# Altium schematic symbol library texas.SCHLIB: 197 symbols (part 3 of 3)
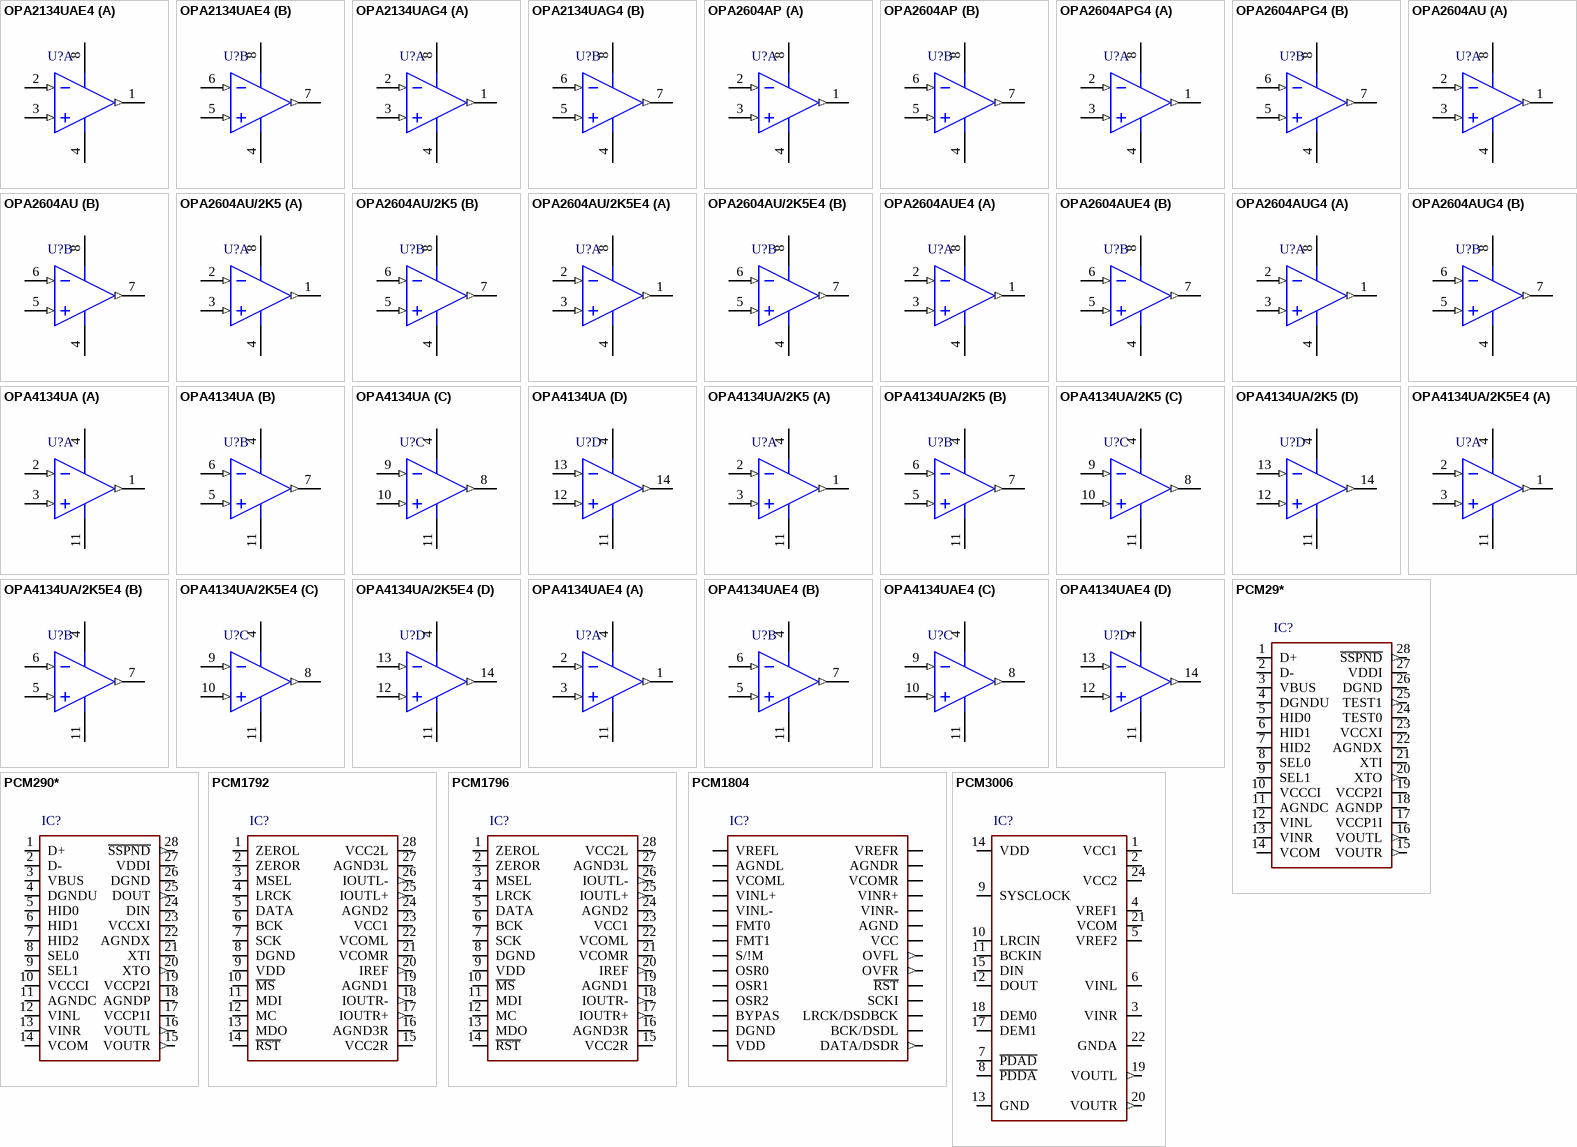
[diagram p15: symbols OPA2134UAE4 to PCM3006]

## OPA2604AUE4
designator U?
Dual FET-Input, Low Distortion Operational Amplifier, 9 to 48 V, -40 to 85 degC, 8-pin SOIC (D8), Green (RoHS & no Sb/Br); Vendor: TEXAS INSTRUMENTS
footprint TI-D8_N (SOIC, 8-Leads, Body 4.9x3.9mm, Pitch 1.27mm, IPC Medium Density)
footprint TI-D8_L (SOIC, 8-Leads, Body 4.9x3.9mm, Pitch 1.27mm, IPC High Density)
footprint TI-D8_M (SOIC, 8-Leads, Body 4.9x3.9mm, Pitch 1.27mm, IPC Low Density)
pins on every part: 4 V- (power), 8 V+ (power)
part A pins: 1 OUT A (out), 2 IN A- (in), 3 IN A+ (in)
part B pins: 5 IN B+ (in), 6 IN B- (in), 7 OUT B (out)

## OPA2604AUG4
designator U?
Dual FET-Input, Low Distortion Operational Amplifier, 9 to 48 V, -40 to 85 degC, 8-pin SOIC (D8), Green (RoHS & no Sb/Br); Vendor: TEXAS INSTRUMENTS
footprint TI-D8_N (SOIC, 8-Leads, Body 4.9x3.9mm, Pitch 1.27mm, IPC Medium Density)
footprint TI-D8_L (SOIC, 8-Leads, Body 4.9x3.9mm, Pitch 1.27mm, IPC High Density)
footprint TI-D8_M (SOIC, 8-Leads, Body 4.9x3.9mm, Pitch 1.27mm, IPC Low Density)
pins on every part: 4 V- (power), 8 V+ (power)
part A pins: 1 OUT A (out), 2 IN A- (in), 3 IN A+ (in)
part B pins: 5 IN B+ (in), 6 IN B- (in), 7 OUT B (out)

## OPA4134UA
designator U?
SoundPlus(TM) High Performance Audio Operational Amplifier, 5 to 36 V, -55 to 125 degC, 14-pin SOIC (D14), Green (RoHS & no Sb/Br); Vendor: TEXAS INSTRUMENTS
footprint TI-D14_N (SOIC, 14-Leads, Body 8.65x3.9mm, Pitch 1.27mm, IPC Medium Density)
footprint TI-D14_L (SOIC, 14-Leads, Body 8.65x3.9mm, Pitch 1.27mm, IPC High Density)
footprint TI-D14_M (SOIC, 14-Leads, Body 8.65x3.9mm, Pitch 1.27mm, IPC Low Density)
pins on every part: 4 V+ (power), 11 V- (power)
part A pins: 1 OUT A (out), 2 IN A- (in), 3 IN A+ (in)
part B pins: 5 IN B+ (in), 6 IN B- (in), 7 OUT B (out)
part C pins: 8 OUT C (out), 9 IN C- (in), 10 IN C+ (in)
part D pins: 12 IN D+ (in), 13 IN D- (in), 14 OUT D (out)

## OPA4134UA/2K5
designator U?
SoundPlus(TM) High Performance Audio Operational Amplifier, 5 to 36 V, -55 to 125 degC, 14-pin SOIC (D14), Green (RoHS & no Sb/Br); Vendor: TEXAS INSTRUMENTS
footprint TI-D14_N (SOIC, 14-Leads, Body 8.65x3.9mm, Pitch 1.27mm, IPC Medium Density)
footprint TI-D14_L (SOIC, 14-Leads, Body 8.65x3.9mm, Pitch 1.27mm, IPC High Density)
footprint TI-D14_M (SOIC, 14-Leads, Body 8.65x3.9mm, Pitch 1.27mm, IPC Low Density)
pins on every part: 4 V+ (power), 11 V- (power)
part A pins: 1 OUT A (out), 2 IN A- (in), 3 IN A+ (in)
part B pins: 5 IN B+ (in), 6 IN B- (in), 7 OUT B (out)
part C pins: 8 OUT C (out), 9 IN C- (in), 10 IN C+ (in)
part D pins: 12 IN D+ (in), 13 IN D- (in), 14 OUT D (out)

## OPA4134UA/2K5E4
designator U?
SoundPlus(TM) High Performance Audio Operational Amplifier, 5 to 36 V, -55 to 125 degC, 14-pin SOIC (D14), Green (RoHS & no Sb/Br); Vendor: TEXAS INSTRUMENTS
footprint TI-D14_N (SOIC, 14-Leads, Body 8.65x3.9mm, Pitch 1.27mm, IPC Medium Density)
footprint TI-D14_L (SOIC, 14-Leads, Body 8.65x3.9mm, Pitch 1.27mm, IPC High Density)
footprint TI-D14_M (SOIC, 14-Leads, Body 8.65x3.9mm, Pitch 1.27mm, IPC Low Density)
pins on every part: 4 V+ (power), 11 V- (power)
part A pins: 1 OUT A (out), 2 IN A- (in), 3 IN A+ (in)
part B pins: 5 IN B+ (in), 6 IN B- (in), 7 OUT B (out)
part C pins: 8 OUT C (out), 9 IN C- (in), 10 IN C+ (in)
part D pins: 12 IN D+ (in), 13 IN D- (in), 14 OUT D (out)

## OPA4134UAE4
designator U?
SoundPlus(TM) High Performance Audio Operational Amplifier, 5 to 36 V, -55 to 125 degC, 14-pin SOIC (D14), Green (RoHS & no Sb/Br); Vendor: TEXAS INSTRUMENTS
footprint TI-D14_N (SOIC, 14-Leads, Body 8.65x3.9mm, Pitch 1.27mm, IPC Medium Density)
footprint TI-D14_L (SOIC, 14-Leads, Body 8.65x3.9mm, Pitch 1.27mm, IPC High Density)
footprint TI-D14_M (SOIC, 14-Leads, Body 8.65x3.9mm, Pitch 1.27mm, IPC Low Density)
pins on every part: 4 V+ (power), 11 V- (power)
part A pins: 1 OUT A (out), 2 IN A- (in), 3 IN A+ (in)
part B pins: 5 IN B+ (in), 6 IN B- (in), 7 OUT B (out)
part C pins: 8 OUT C (out), 9 IN C- (in), 10 IN C+ (in)
part D pins: 12 IN D+ (in), 13 IN D- (in), 14 OUT D (out)

## PCM29*
designator IC?, comment <b>STEREO AUDIO CODEC WITH USB INTERFACE</b><p> / SINGLE-ENDED ANALOG INPUT/OUTPUT AND S/PDIF  (value not drawn)
Part Number: PCM2904DB; Vendor: TEXAS INSTRUMENTS
footprint SSOP28DB
pins: 1 D+, 2 D-, 3 VBUS (power), 4 DGNDU (power), 5 HID0, 6 HID1, 7 HID2, 8 SEL0, 9 SEL1, 10 VCCCI (power), 11 AGNDC (power), 12 VINL, 13 VINR, 14 VCOM (power), 15 VOUTR (out), 16 VOUTL (out), 17 VCCP1I, 18 AGNDP (power), 19 VCCP2I (power), 20 XTO (out), 21 XTI, 22 AGNDX (power), 23 VCCXI (power), 24 TEST0, 25 TEST1 (out), 26 DGND (power), 27 VDDI (power), 28 ~{SSPND} (out)

## PCM290*
designator IC?, comment <b>STEREO AUDIO CODEC WITH USB INTERFACE</b><p> / SINGLE-ENDED ANALOG INPUT/OUTPUT AND S/PDIF  (value not drawn)
Part Number: PCM2906DB; Vendor: TEXAS INSTRUMENTS
footprint SSOP28DB
pins: 1 D+, 2 D-, 3 VBUS (power), 4 DGNDU (power), 5 HID0, 6 HID1, 7 HID2, 8 SEL0, 9 SEL1, 10 VCCCI (power), 11 AGNDC (power), 12 VINL, 13 VINR, 14 VCOM (power), 15 VOUTR (out), 16 VOUTL (out), 17 VCCP1I, 18 AGNDP (power), 19 VCCP2I (power), 20 XTO (out), 21 XTI, 22 AGNDX (power), 23 VCCXI (power), 24 DIN, 25 DOUT (out), 26 DGND (power), 27 VDDI (power), 28 ~{SSPND} (out)

## PCM1792
designator IC?, comment <b>24-BIT, 192-kHz SAMPLING, ADVANCED SEGMENT, AUDIO STEREO DIGITAL-TO-ANALOG CONVERTER</b><p> / Source: http://focus.ti.com/lit/ds/symlink/pcm1792.pdf  (value not drawn)
Part Number: PCM1792DB; Vendor: TEXAS INSTRUMENTS
footprint DB_R-PDSO-G28
pins: 1 ZEROL, 2 ZEROR, 3 MSEL, 4 LRCK, 5 DATA, 6 BCK, 7 SCK, 8 DGND, 9 VDD, 10 ~{MS}, 11 MDI, 12 MC, 13 MDO, 14 ~{RST}, 15 VCC2R, 16 AGND3R, 17 IOUTR+ (out), 18 IOUTR- (out), 19 AGND1, 20 IREF (out), 21 VCOMR, 22 VCOML, 23 VCC1, 24 AGND2, 25 IOUTL+ (out), 26 IOUTL- (out), 27 AGND3L, 28 VCC2L

## PCM1796
designator IC?, comment <b>24-BIT, 192-kHz SAMPLING, ADVANCED SEGMENT, AUDIO STEREO DIGITAL-TO-ANALOG CONVERTER</b><p> / Source: http://focus.ti.com/lit/ds/symlink/pcm1796.pdf  (value not drawn)
Part Number: PCM1796DB; Vendor: TEXAS INSTRUMENTS
footprint DB_R-PDSO-G28
pins: 1 ZEROL, 2 ZEROR, 3 MSEL, 4 LRCK, 5 DATA, 6 BCK, 7 SCK, 8 DGND, 9 VDD, 10 ~{MS}, 11 MDI, 12 MC, 13 MDO, 14 ~{RST}, 15 VCC2R, 16 AGND3R, 17 IOUTR+ (out), 18 IOUTR- (out), 19 AGND1, 20 IREF (out), 21 VCOMR, 22 VCOML, 23 VCC1, 24 AGND2, 25 IOUTL+ (out), 26 IOUTL- (out), 27 AGND3L, 28 VCC2L

## PCM1804
designator IC?, comment <b>FULL DIFFERENTIAL ANALOG INPUT 24-BIT, 192-kHz STEREO A/D CONVERTER</b><p> / Auto generated by <i>make-symbol-device-package-bsdl.ulp Rev. 29</i><br> / Source: http://focus.ti.com/lit/ds/symlink/pcm1804.pdf  (value not drawn)
Part Number: PCM1804DB; Vendor: TEXAS INSTRUMENTS
footprint DB_R-PDSO-G28
pins: 1 VREFL (power), 2 AGNDL (power), 3 VCOML (power), 4 VINL+, 5 VINL-, 6 FMT0, 7 FMT1, 8 S/!M, 9 OSR0, 10 OSR1, 11 OSR2, 12 BYPAS, 13 DGND (power), 14 VDD (power), 15 DATA/DSDR (out), 16 BCK/DSDL, 17 LRCK/DSDBCK, 18 SCKI, 19 ~{RST}, 20 OVFR (out), 21 OVFL (out), 22 VCC (power), 23 AGND (power), 24 VINR-, 25 VINR+, 26 VCOMR (power), 27 AGNDR (power), 28 VREFR (power)

## PCM3006
designator IC?, comment <b>16-Bit, Single-Ended Analog Input/Output Stereo Audio Codec</b><p> / Source: http://focus.ti.com/lit/ds/symlink/pcm3006.pdf  (value not drawn)
Part Number: PCM3006T; Vendor: TEXAS INSTRUMENTS
footprint R-PSOP-G24
pins: 1 VCC1 (power), 2 VCC1 (power), 3 VINR, 4 VREF1, 5 VREF2, 6 VINL, 7 ~{PDAD}, 8 ~{PDDA}, 9 SYSCLOCK, 10 LRCIN, 11 BCKIN, 12 DOUT, 13 GND (power), 14 VDD (power), 15 DIN, 17 DEM1, 18 DEM0, 19 VOUTL (out), 20 VOUTR (out), 21 VCOM (power), 22 GNDA (power), 24 VCC2 (power)

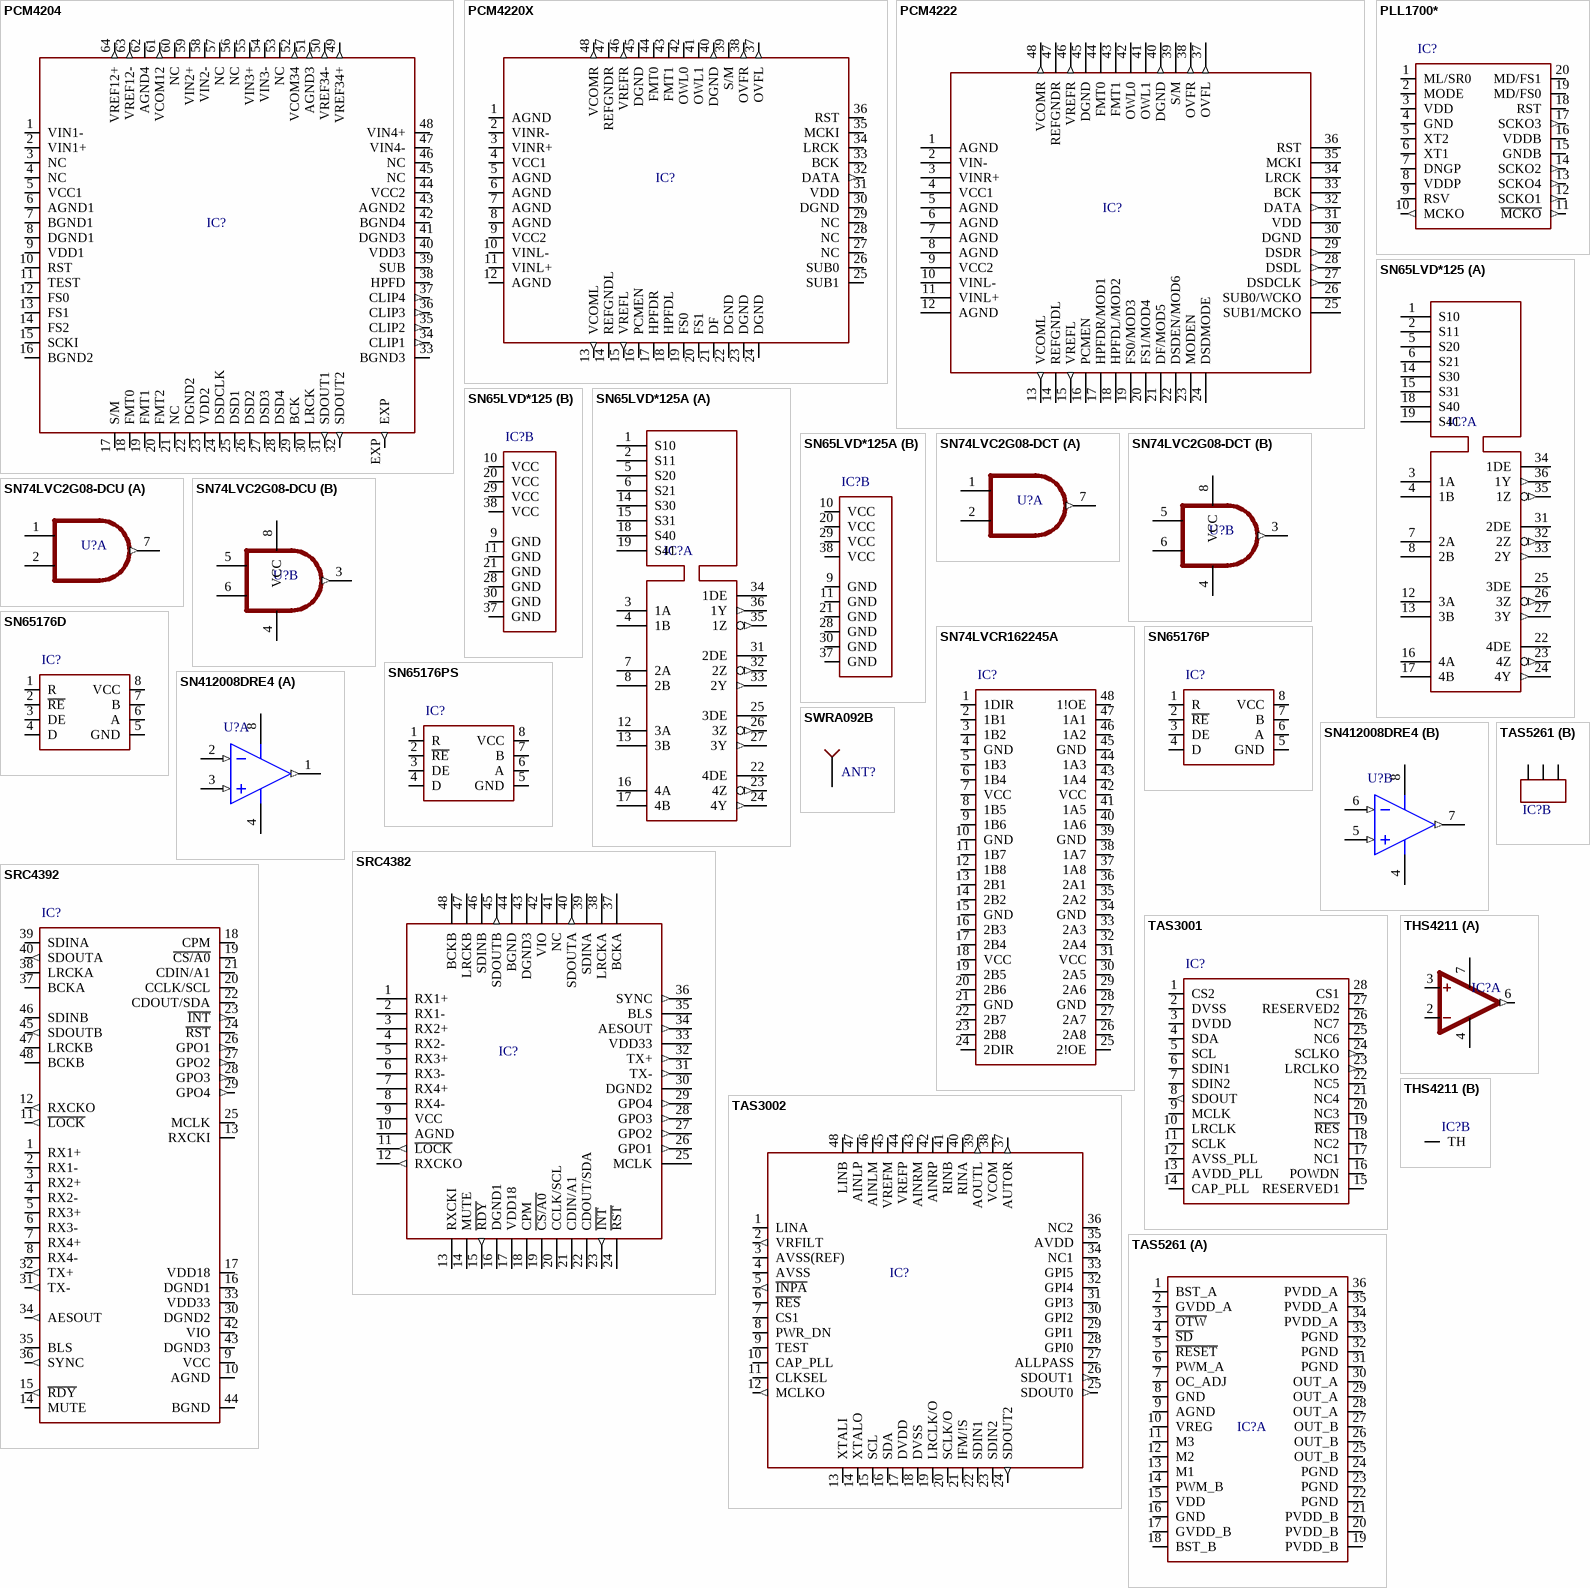
[diagram p10: symbols PCM4204 to THS4211]

## PCM4204
designator IC?, comment <b>High-Performance 24-Bit, 216kHz Sampling Four-Channel Audio-to-Digital Converter</b><p> / Auto generated by <i>make-symbol-device-package-bsdl.ulp Rev. 29</i><br> / Source: http://focus.ti.com/lit/ds/symlink/pcm4204.pdf  (value not drawn)
Part Number: PCM4204PAPT; Vendor: TEXAS INSTRUMENTS
footprint PAP_S-PQFP-G64
pins: 1 VIN1-, 2 VIN1+, 3 NC, 4 NC, 5 VCC1 (power), 6 AGND1 (power), 7 BGND1 (power), 8 DGND1 (power), 9 VDD1 (power), 10 RST, 11 TEST, 12 FS0, 13 FS1, 14 FS2, 15 SCKI, 16 BGND2 (power), 17 S/M, 18 FMT0, 19 FMT1, 20 FMT2, 21 NC, 22 DGND2 (power), 23 VDD2 (power), 24 DSDCLK, 25 DSD1, 26 DSD2, 27 DSD3, 28 DSD4, 29 BCK, 30 LRCK, 31 SDOUT1 (out), 32 SDOUT2 (out), 33 BGND3 (power), 34 CLIP1 (out), 35 CLIP2 (out), 36 CLIP3 (out), 37 CLIP4 (out), 38 HPFD, 39 SUB, 40 VDD3 (power), 41 DGND3 (power), 42 BGND4 (power), 43 AGND2 (power), 44 VCC2 (power), 45 NC, 46 NC, 47 VIN4-, 48 VIN4+, 49 VREF34+ (out), 50 VREF34- (out), 51 AGND3 (out), 52 VCOM34 (out), 53 NC, 54 VIN3-, 55 VIN3+, 56 NC, 57 NC, 58 VIN2-, 59 VIN2+, 60 NC, 61 VCOM12 (out), 62 AGND4 (power), 63 VREF12- (out), 64 VREF12+ (out), EXP (out)

## PCM4220X
designator IC?, comment <b>High-Performance, Two-Channel, 24-Bit, 216kHz Sampling Multi-Bit Delta-Sigma Analog-to-Digital Converter</b><p> / Auto generated by <i>make-symbol-device-package-bsdl.ulp Rev. 29</i><br> / Source:http://focus.ti.com/lit/ds/symlink/pcm4220.pdf  (value not drawn)
Part Number: PCM4220PFB; Vendor: TEXAS INSTRUMENTS
footprint PFB_S-PQFP-G48
pins: 1 AGND (power), 2 VINR-, 3 VINR+, 4 VCC1 (power), 5 AGND (power), 6 AGND (power), 7 AGND (power), 8 AGND (power), 9 VCC2 (power), 10 VINL-, 11 VINL+, 12 AGND (power), 13 VCOML (out), 14 REFGNDL (power), 15 VREFL (out), 16 PCMEN, 17 HPFDR, 18 HPFDL, 19 FS0, 20 FS1, 21 DF, 22 DGND (power), 23 DGND (power), 24 DGND (power), 25 SUB1, 26 SUB0, 27 NC, 28 NC, 29 NC, 30 DGND (power), 31 VDD (power), 32 DATA (out), 33 BCK, 34 LRCK, 35 MCKI, 36 RST, 37 OVFL (out), 38 OVFR (out), 39 S/M, 40 DGND (out), 41 OWL1, 42 OWL0, 43 FMT1, 44 FMT0, 45 DGND (power), 46 VREFR (out), 47 REFGNDR (power), 48 VCOMR (out)

## PCM4222
designator IC?, comment <b>High-Performance, Two-Channel, 24-Bit, 216kHz Sampling Multi-Bit Delta-Sigma Analog-to-Digital Converter</b><p> / Auto generated by <i>make-symbol-device-package-bsdl.ulp Rev. 29</i><br> / Source: http://focus.ti.com/lit/ds/symlink/pcm4222.pdf  (value not drawn)
Part Number: PCM4222PFB; Vendor: TEXAS INSTRUMENTS
footprint PFB_S-PQFP-G48
pins: 1 AGND (power), 2 VIN-, 3 VINR+, 4 VCC1 (power), 5 AGND (power), 6 AGND (power), 7 AGND (power), 8 AGND (power), 9 VCC2 (power), 10 VINL-, 11 VINL+, 12 AGND (power), 13 VCOML (out), 14 REFGNDL (power), 15 VREFL (out), 16 PCMEN, 17 HPFDR/MOD1, 18 HPFDL/MOD2, 19 FS0/MOD3, 20 FS1/MOD4, 21 DF/MOD5, 22 DSDEN/MOD6, 23 MODEN, 24 DSDMODE, 25 SUB1/MCKO, 26 SUB0/WCKO, 27 DSDCLK (out), 28 DSDL (out), 29 DSDR (out), 30 DGND (power), 31 VDD (power), 32 DATA (out), 33 BCK, 34 LRCK, 35 MCKI, 36 RST, 37 OVFL (out), 38 OVFR (out), 39 S/M, 40 DGND (out), 41 OWL1, 42 OWL0, 43 FMT1, 44 FMT0, 45 DGND (power), 46 VREFR (out), 47 REFGNDR (power), 48 VCOMR (out)

## PLL1700*
designator IC?, comment <b>MULTI-CLOCK GENERATOR</b><p> / GENERATED AUDIO SYSTEM CLOCK<br> / Phase Lock Loop (PLL).  (value not drawn)
Part Number: PLL1700E; Vendor: TEXAS INSTRUMENTS
footprint SSOP20
pins: 1 ML/SR0, 2 MODE, 3 VDD, 4 GND (power), 5 XT2, 6 XT1, 7 DNGP (power), 8 VDDP (power), 9 RSV, 10 MCKO (out), 11 ~{MCKO} (out), 12 SCKO1 (out), 13 SCKO4 (out), 14 SCKO2 (out), 15 GNDB (power), 16 VDDB (power), 17 SCKO3 (out), 18 RST, 19 MD/FS0, 20 MD/FS1

## SN65LVD*125
designator IC?, comment <b>LVDS 4x4 CROSSPOINT SWITCH</b><p> / Source: http://focus.ti.com/lit/ds/symlink/sn65lvds125a.pdf  (value not drawn)
Part Number: SN65LVDT125ADBT; Vendor: TEXAS INSTRUMENTS
footprint DBT_R-PDSO-G38
part A pins: 1 S10, 2 S11, 3 1A, 4 1B, 5 S20, 6 S21, 7 2A, 8 2B, 12 3A, 13 3B, 14 S30, 15 S31, 16 4A, 17 4B, 18 S40, 19 S41, 22 4DE, 23 4Z (out), 24 4Y (out), 25 3DE, 26 3Z (out), 27 3Y (out), 31 2DE, 32 2Z (out), 33 2Y (out), 34 1DE, 35 1Z (out), 36 1Y (out)
part B pins: 9 GND, 10 VCC, 11 GND, 20 VCC, 21 GND, 28 GND, 29 VCC, 30 GND, 37 GND, 38 VCC

## SN65LVD*125A
designator IC?, comment <b>LVDS 4x4 CROSSPOINT SWITCH</b><p> / Source: http://focus.ti.com/lit/ds/symlink/sn65lvds125a.pdf  (value not drawn)
Part Number: SN65LVDT125ADBTR; Vendor: TEXAS INSTRUMENTS
footprint DBT_R-PDSO-G38
part A pins: 1 S10, 2 S11, 3 1A, 4 1B, 5 S20, 6 S21, 7 2A, 8 2B, 12 3A, 13 3B, 14 S30, 15 S31, 16 4A, 17 4B, 18 S40, 19 S41, 22 4DE, 23 4Z (out), 24 4Y (out), 25 3DE, 26 3Z (out), 27 3Y (out), 31 2DE, 32 2Z (out), 33 2Y (out), 34 1DE, 35 1Z (out), 36 1Y (out)
part B pins: 9 GND, 10 VCC, 11 GND, 20 VCC, 21 GND, 28 GND, 29 VCC, 30 GND, 37 GND, 38 VCC

## SN74LVC2G08-DCT
designator U?  (value not drawn)
Vendor: TEXAS INSTRUMENTS; Part Number: SN74LVC2G08-DCT
footprint SSOP8
part A pins: 1 A, 2 B, 7 Y (out)
part B pins: 3 Y (out), 4 GND (power), 5 A, 6 B, 8 VCC (power)

## SN74LVC2G08-DCU
designator U?  (value not drawn)
Vendor: TEXAS INSTRUMENTS; Part Number: SN74LVC2G08-DCU
footprint VSSOP8
footprint VSSOP8
part A pins: 1 A, 2 B, 7 Y (out)
part B pins: 3 Y (out), 4 GND (power), 5 A, 6 B, 8 VCC (power)

## SN74LVCR162245A
designator IC?, comment <b>16-BIT BUS TRANSCEIVER WITH 3-STATE OUTPUTS</b><p> / Auto generated by <i>make-symbol-device-package-bsdl.ulp Rev. 33</i><br> / Source: http://focus.ti.com/lit/ds/symlink/sn74lvcr162245.pdf  (value not drawn)
Part Number: SN74LVCR162245DL; Vendor: TEXAS INSTRUMENTS
footprint DL_R-PDSO-G48
pins: 1 1DIR, 2 1B1 (hiz), 3 1B2 (hiz), 4 GND (power), 5 1B3 (hiz), 6 1B4 (hiz), 7 VCC (power), 8 1B5 (hiz), 9 1B6 (hiz), 10 GND (power), 11 1B7 (hiz), 12 1B8 (hiz), 13 2B1 (hiz), 14 2B2 (hiz), 15 GND (power), 16 2B3 (hiz), 17 2B4 (hiz), 18 VCC (power), 19 2B5 (hiz), 20 2B6 (hiz), 21 GND (hiz), 22 2B7 (hiz), 23 2B8 (hiz), 24 2DIR, 25 2!OE, 26 2A8 (hiz), 27 2A7 (hiz), 28 GND (power), 29 2A6 (hiz), 30 2A5 (hiz), 31 VCC (power), 32 2A4 (hiz), 33 2A3 (hiz), 34 GND (power), 35 2A2 (hiz), 36 2A1 (hiz), 37 1A8 (hiz), 38 1A7 (hiz), 39 GND (hiz), 40 1A6 (hiz), 41 1A5 (hiz), 42 VCC (power), 43 1A4 (hiz), 44 1A3 (hiz), 45 GND (power), 46 1A2 (hiz), 47 1A1 (hiz), 48 1!OE

## SN65176D
designator IC?, comment <b>DIFFERENTIAL BUS TRANSCEIVER</b><p> / Source: http://focus.ti.com .. sn65176b.pdf  (value not drawn)
Part Number: SN65176BD; Vendor: TEXAS INSTRUMENTS
footprint SO-08
pins: 1 R, 2 ~{RE}, 3 DE, 4 D, 5 GND, 6 A, 7 B, 8 VCC

## SN65176P
designator IC?, comment <b>DIFFERENTIAL BUS TRANSCEIVER</b><p> / Source: http://focus.ti.com .. sn65176b.pdf  (value not drawn)
Part Number: SN65176BP; Vendor: TEXAS INSTRUMENTS
footprint DIL08
pins: 1 R, 2 ~{RE}, 3 DE, 4 D, 5 GND, 6 A, 7 B, 8 VCC

## SN65176PS
designator IC?, comment <b>DIFFERENTIAL BUS TRANSCEIVER</b><p> / Source: http://focus.ti.com .. sn65176b.pdf  (value not drawn)
Vendor: TEXAS INSTRUMENTS
footprint SOP-08
pins: 1 R, 2 ~{RE}, 3 DE, 4 D, 5 GND, 6 A, 7 B, 8 VCC

## SN412008DRE4
designator U?
SoundPlus(TM) High Performance Audio Operational Amplifier, 5 to 36 V, -40 to 125 degC, 8-pin SOIC (D8), Green (RoHS & no Sb/Br); Vendor: TEXAS INSTRUMENTS
footprint TI-D8_N (SOIC, 8-Leads, Body 4.9x3.9mm, Pitch 1.27mm, IPC Medium Density)
footprint TI-D8_L (SOIC, 8-Leads, Body 4.9x3.9mm, Pitch 1.27mm, IPC High Density)
footprint TI-D8_M (SOIC, 8-Leads, Body 4.9x3.9mm, Pitch 1.27mm, IPC Low Density)
pins on every part: 4 V- (power), 8 V+ (power)
part A pins: 1 OUT A (out), 2 IN A- (in), 3 IN A+ (in)
part B pins: 5 IN B+ (in), 6 IN B- (in), 7 OUT B (out)

## SRC4382
designator IC?, comment <b>Two-Channel, Asynchronous Sample Rate Converter with Integrated Digital Audio Interface Receiver and Transmitter</b><p> / Auto generated by <i>make-symbol-device-package-bsdl.ulp Rev. 29</i><br> / Source: http://focus.ti.com/lit/ds/symlink/src4382.pdf  (value not drawn)
Part Number: SRC4382IPFB; Vendor: TEXAS INSTRUMENTS
footprint S-PQFP-G48
pins: 1 RX1+, 2 RX1-, 3 RX2+, 4 RX2-, 5 RX3+, 6 RX3-, 7 RX4+, 8 RX4-, 9 VCC (power), 10 AGND (power), 11 ~{LOCK} (out), 12 RXCKO (out), 13 RXCKI, 14 MUTE, 15 ~{RDY} (out), 16 DGND1 (power), 17 VDD18 (power), 18 CPM, 19 ~{CS/A0}, 20 CCLK/SCL, 21 CDIN/A1, 22 CDOUT/SDA, 23 ~{INT} (out), 24 ~{RST}, 25 MCLK, 26 GPO1 (out), 27 GPO2 (out), 28 GPO3 (out), 29 GPO4 (out), 30 DGND2 (power), 31 TX- (out), 32 TX+ (out), 33 VDD33 (power), 34 AESOUT (out), 35 BLS, 36 SYNC (out), 37 BCKA, 38 LRCKA, 39 SDINA, 40 SDOUTA (out), 41 NC, 42 VIO (power), 43 DGND3 (power), 44 BGND (power), 45 SDOUTB (out), 46 SDINB, 47 LRCKB, 48 BCKB

## SRC4392
designator IC?, comment <b>Two-Channel, Asynchronous Sample Rate Converter with Integrated Digital Audio Interface Receiver and Transmitter</b><p> / Source: http://focus.ti.com/lit/ds/symlink/src4392.pdf  (value not drawn)
Part Number: SRC4392IPFB; Vendor: TEXAS INSTRUMENTS
footprint S-PQFP-G48
pins: 1 RX1+, 2 RX1-, 3 RX2+, 4 RX2-, 5 RX3+, 6 RX3-, 7 RX4+, 8 RX4-, 9 VCC, 10 AGND, 11 ~{LOCK} (out), 12 RXCKO (out), 13 RXCKI, 14 MUTE, 15 ~{RDY} (out), 16 DGND1, 17 VDD18, 18 CPM, 19 ~{CS/A0}, 20 CCLK/SCL, 21 CDIN/A1, 22 CDOUT/SDA, 23 ~{INT} (out), 24 ~{RST}, 25 MCLK, 26 GPO1 (out), 27 GPO2 (out), 28 GPO3 (out), 29 GPO4 (out), 30 DGND2, 31 TX- (out), 32 TX+ (out), 33 VDD33, 34 AESOUT (out), 35 BLS, 36 SYNC (out), 37 BCKA, 38 LRCKA, 39 SDINA, 40 SDOUTA (out), 42 VIO, 43 DGND3, 44 BGND, 45 SDOUTB (out), 46 SDINB, 47 LRCKB, 48 BCKB

## SWRA092B
designator ANT?, comment <b>Compact Reach XtendTM Bluetooth®, 802.11b/g WLAN Chip Antenna</b><p> / Source: <a href="http://www.ti.com/lit/an/swra092b/swra092b.pdf"> Data sheet </a>  (value not drawn)
Vendor: TEXAS INSTRUMENTS
footprint SWRA092B
pins: 1 ANTENNA

## TAS3001
designator IC?, comment <b>TAS3001C Digital Audio Processor</b><p>  (value not drawn)
Vendor: TEXAS INSTRUMENTS
footprint PSO28
pins: 1 CS2, 2 DVSS (power), 3 DVDD (power), 4 SDA, 5 SCL, 6 SDIN1, 7 SDIN2, 8 SDOUT (out), 9 MCLK, 10 LRCLK, 11 SCLK, 12 AVSS_PLL (power), 13 AVDD_PLL (power), 14 CAP_PLL, 15 RESERVED1, 16 POWDN, 17 NC1, 18 NC2, 19 ~{RES}, 20 NC3, 21 NC4, 22 NC5, 23 LRCLKO (out), 24 SCLKO (out), 25 NC6, 26 NC7, 27 RESERVED2, 28 CS1

## TAS3002
designator IC?, comment <b>Digital Audio Processor with Codec</b><p> / www.ti.com; tas3002.pdf  (value not drawn)
Part Number: TAS3002PFB; Vendor: TEXAS INSTRUMENTS
footprint PQFP48
pins: 1 LINA, 2 VRFILT (out), 3 AVSS(REF) (power), 4 AVSS (power), 5 ~{INPA} (out), 6 ~{RES}, 7 CS1, 8 PWR_DN, 9 TEST, 10 CAP_PLL, 11 CLKSEL, 12 MCLKO (out), 13 XTALI, 14 XTALO, 15 SCL, 16 SDA, 17 DVDD (power), 18 DVSS (power), 19 LRCLK/O, 20 SCLK/O, 21 IFM/!S, 22 SDIN1, 23 SDIN2, 24 SDOUT2 (out), 25 SDOUT0 (out), 26 SDOUT1 (out), 27 ALLPASS, 28 GPI0, 29 GPI1, 30 GPI2, 31 GPI3, 32 GPI4, 33 GPI5, 34 NC1, 35 AVDD (power), 36 NC2, 37 AUTOR (out), 38 VCOM (power), 39 AOUTL (out), 40 RINA, 41 RINB, 42 AINRP, 43 AINRM, 44 VREFP, 45 VREFM, 46 AINLM, 47 AINLP, 48 LINB

## TAS5261
designator IC?, comment <b>315-W Mono BTL Digital Amplifier Power Stage</b><p> / Source: http://focus.ti.com/lit/ds/symlink/tas5261.pdf  (value not drawn)
Part Number: TAS5261DKD; Vendor: TEXAS INSTRUMENTS
footprint DKD_R-PDSO-G36
part A pins: 1 BST_A, 2 GVDD_A, 3 ~{OTW}, 4 ~{SD}, 5 ~{RESET}, 6 PWM_A, 7 OC_ADJ, 8 GND, 9 AGND, 10 VREG, 11 M3, 12 M2, 13 M1, 14 PWM_B, 15 VDD, 16 GND, 17 GVDD_B, 18 BST_B, 19 PVDD_B, 20 PVDD_B, 21 PVDD_B, 22 PGND, 23 PGND, 24 PGND, 25 OUT_B, 26 OUT_B, 27 OUT_B, 28 OUT_A, 29 OUT_A, 30 OUT_A, 31 PGND, 32 PGND, 33 PGND, 34 PVDD_A, 35 PVDD_A, 36 PVDD_A
part B pins: EXP@1 EXP, EXP@2 EXP, EXP@3 EXP

## THS4211
designator IC?, comment <b>LOW-DISTORTION, HIGH-SPEED, VOLTAGE FEEDBACK AMPLIFIER</b><p> / Source: http://focus.ti.com/lit/ds/symlink/ths4211.pdf  (value not drawn)
Part Number: THS4211DGK; Vendor: TEXAS INSTRUMENTS
footprint S-PDSO-G08
part A pins: 2 -IN, 3 +IN, 4 V- (power), 6 OUT (out), 7 V+ (power)
part B pins: TH

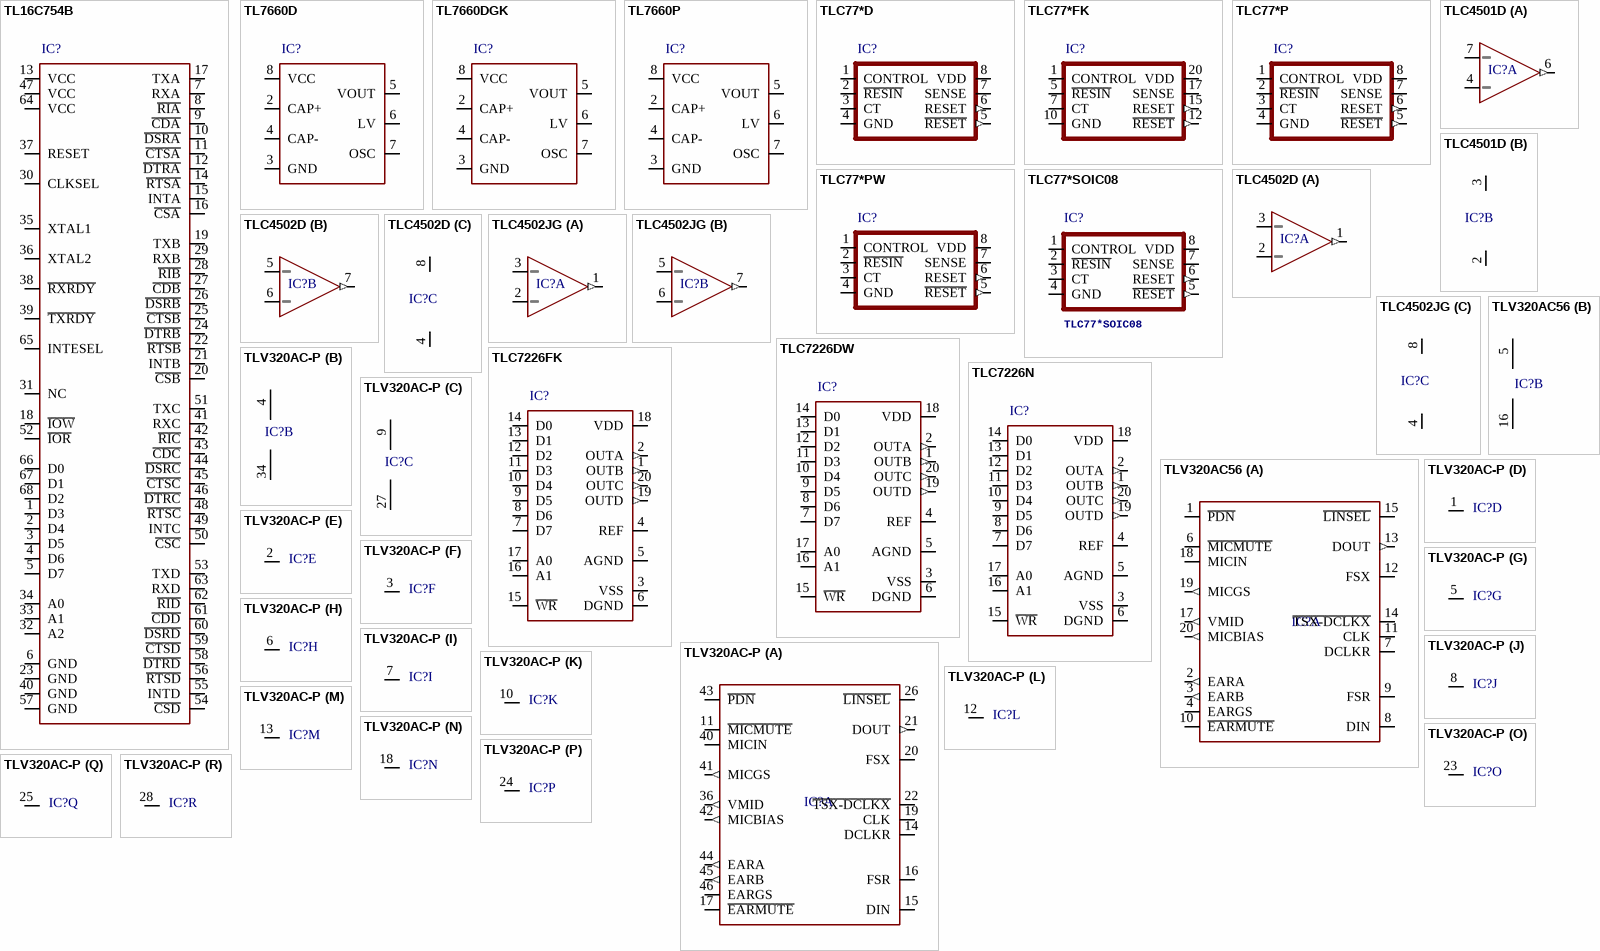
[diagram p11: symbols TL16C754B to TLV320AC-P]

## TL16C754B
designator IC?, comment <b>QUAD UART WITH 64-BYTE FIFO</b><p> / Source: http://focus.ti.com/lit/ds/symlink/tl16c754b.pdf  (value not drawn)
Part Number: TL16C754BFN; Vendor: TEXAS INSTRUMENTS
footprint PLCC68S
pins: 1 D3, 2 D4, 3 D5, 4 D6, 5 D7, 6 GND, 7 RXA, 8 ~{RIA}, 9 ~{CDA}, 10 ~{DSRA}, 11 ~{CTSA}, 12 ~{DTRA}, 13 VCC, 14 ~{RTSA}, 15 INTA, 16 ~{CSA}, 17 TXA, 18 ~{IOW}, 19 TXB, 20 ~{CSB}, 21 INTB, 22 ~{RTSB}, 23 GND, 24 ~{DTRB}, 25 ~{CTSB}, 26 ~{DSRB}, 27 ~{CDB}, 28 ~{RIB}, 29 RXB, 30 CLKSEL, 31 NC, 32 A2, 33 A1, 34 A0, 35 XTAL1, 36 XTAL2, 37 RESET, 38 ~{RXRDY}, 39 ~{TXRDY}, 40 GND, 41 RXC, 42 ~{RIC}, 43 ~{CDC}, 44 ~{DSRC}, 45 ~{CTSC}, 46 ~{DTRC}, 47 VCC, 48 ~{RTSC}, 49 INTC, 50 ~{CSC}, 51 TXC, 52 ~{IOR}, 53 TXD, 54 ~{CSD}, 55 INTD, 56 ~{RTSD}, 57 GND, 58 ~{DTRD}, 59 ~{CTSD}, 60 ~{DSRD}, 61 ~{CDD}, 62 ~{RID}, 63 RXD, 64 VCC, 65 INTESEL, 66 D0, 67 D1, 68 D2

## TL7660D
designator IC?, comment <b>CMOS VOLTAGE CONVERTER</b><p> / Source: http://focus.ti.com/lit/ds/scas794/scas794.pdf  (value not drawn)
Part Number: TL7660CD; Vendor: TEXAS INSTRUMENTS
footprint D_R-PDSO-G08
pins: 2 CAP+, 3 GND (power), 4 CAP-, 5 VOUT, 6 LV, 7 OSC, 8 VCC (power)

## TL7660DGK
designator IC?, comment <b>CMOS VOLTAGE CONVERTER</b><p> / Source: http://focus.ti.com/lit/ds/scas794/scas794.pdf  (value not drawn)
Vendor: TEXAS INSTRUMENTS
footprint DGK_S-PDSO-G8
pins: 2 CAP+, 3 GND (power), 4 CAP-, 5 VOUT, 6 LV, 7 OSC, 8 VCC (power)

## TL7660P
designator IC?, comment <b>CMOS VOLTAGE CONVERTER</b><p> / Source: http://focus.ti.com/lit/ds/scas794/scas794.pdf  (value not drawn)
Part Number: TL7660CP; Vendor: TEXAS INSTRUMENTS
footprint DIL08
pins: 2 CAP+, 3 GND (power), 4 CAP-, 5 VOUT, 6 LV, 7 OSC, 8 VCC (power)

## TLC77*D
designator IC?, comment <b>MICROPOWER SUPPLY VOLTAGE SUPERVISORS</b><p> / Source: www.ti.com/.. slvs087l.pdf  (value not drawn)
Part Number: TLC7733QP; Vendor: TEXAS INSTRUMENTS
footprint DIL08
pins: 1 CONTROL, 2 ~{RESIN}, 3 CT, 4 GND (power), 5 ~{RESET} (out), 6 RESET (out), 7 SENSE, 8 VDD (power)

## TLC77*FK
designator IC?, comment <b>MICROPOWER SUPPLY VOLTAGE SUPERVISORS</b><p> / Source: www.ti.com/.. slvs087l.pdf  (value not drawn)
Vendor: TEXAS INSTRUMENTS
footprint PLCC20
pins: 1 CONTROL, 5 ~{RESIN}, 7 CT, 10 GND (power), 12 ~{RESET} (out), 15 RESET (out), 17 SENSE, 20 VDD (power)

## TLC77*P
designator IC?, comment <b>MICROPOWER SUPPLY VOLTAGE SUPERVISORS</b><p> / Source: www.ti.com/.. slvs087l.pdf  (value not drawn)
Part Number: TLC7733QP; Vendor: TEXAS INSTRUMENTS
footprint DIL08
pins: 1 CONTROL, 2 ~{RESIN}, 3 CT, 4 GND (power), 5 ~{RESET} (out), 6 RESET (out), 7 SENSE, 8 VDD (power)

## TLC77*PW
designator IC?, comment <b>MICROPOWER SUPPLY VOLTAGE SUPERVISORS</b><p> / Source: www.ti.com/.. slvs087l.pdf  (value not drawn)
Part Number: TLC7733QPWG4; Vendor: TEXAS INSTRUMENTS
footprint PW_R-PDSO-G08
pins: 1 CONTROL, 2 ~{RESIN}, 3 CT, 4 GND (power), 5 ~{RESET} (out), 6 RESET (out), 7 SENSE, 8 VDD (power)

## TLC77*SOIC08
designator IC?
Vendor: TEXAS INSTRUMENTS
footprint SOIC8
pins: 1 CONTROL, 2 ~{RESIN}, 3 CT, 4 GND (power), 5 ~{RESET} (out), 6 RESET (out), 7 SENSE, 8 VDD (power)

## TLC4501D
designator IC?, comment <b>FAMILY OF SELF-CALIBRATING (Self-Cal TM) PRECISION CMOS RAIL-TO-RAIL OUTPUT OPERATIONAL AMPLIFIERS</b><p> / Source: <a href="http://www.ti.com/lit/ds/symlink/tlc4502.pdf"> Data sheet </a>  (value not drawn)
Vendor: TEXAS INSTRUMENTS
footprint D_R-PDSO-G08
part A pins: 4 -, 6 OUT (out), 7 +
part B pins: 2 V- (power), 3 V+ (power)

## TLC4502D
designator IC?, comment <b>FAMILY OF SELF-CALIBRATING (Self-Cal TM) PRECISION CMOS RAIL-TO-RAIL OUTPUT OPERATIONAL AMPLIFIERS</b><p> / Source: <a href="http://www.ti.com/lit/ds/symlink/tlc4502.pdf"> Data sheet </a>  (value not drawn)
Vendor: TEXAS INSTRUMENTS
footprint D_R-PDSO-G08
part A pins: 1 OUT (out), 2 -, 3 +
part B pins: 5 +, 6 -, 7 OUT (out)
part C pins: 4 V- (power), 8 V+ (power)

## TLC4502JG
designator IC?, comment <b>FAMILY OF SELF-CALIBRATING (Self-Cal TM) PRECISION CMOS RAIL-TO-RAIL OUTPUT OPERATIONAL AMPLIFIERS</b><p> / Source: <a href="http://www.ti.com/lit/ds/symlink/tlc4502.pdf"> Data sheet </a>  (value not drawn)
Vendor: TEXAS INSTRUMENTS
footprint DIL08
part A pins: 1 OUT (out), 2 -, 3 +
part B pins: 5 +, 6 -, 7 OUT (out)
part C pins: 4 V- (power), 8 V+ (power)

## TLC7226DW
designator IC?, comment <b>QUADRUPLE 8-BIT DIGITAL-TO-ANALOG CONVERTERS</b><p> / Source: http://focus.ti.com/lit/ds/symlink/tlc7226.pdf  (value not drawn)
Part Number: TLC7226IDW; Vendor: TEXAS INSTRUMENTS
footprint SO-20DW
pins: 1 OUTB (out), 2 OUTA (out), 3 VSS (power), 4 REF, 5 AGND (power), 6 DGND (power), 7 D7, 8 D6, 9 D5, 10 D4, 11 D3, 12 D2, 13 D1, 14 D0, 15 ~{WR}, 16 A1, 17 A0, 18 VDD (power), 19 OUTD (out), 20 OUTC (out)

## TLC7226FK
designator IC?, comment <b>QUADRUPLE 8-BIT DIGITAL-TO-ANALOG CONVERTERS</b><p> / Source: http://focus.ti.com/lit/ds/symlink/tlc7226.pdf  (value not drawn)
Vendor: TEXAS INSTRUMENTS
footprint PLCC20
pins: 1 OUTB (out), 2 OUTA (out), 3 VSS (power), 4 REF, 5 AGND (power), 6 DGND (power), 7 D7, 8 D6, 9 D5, 10 D4, 11 D3, 12 D2, 13 D1, 14 D0, 15 ~{WR}, 16 A1, 17 A0, 18 VDD (power), 19 OUTD (out), 20 OUTC (out)

## TLC7226N
designator IC?, comment <b>QUADRUPLE 8-BIT DIGITAL-TO-ANALOG CONVERTERS</b><p> / Source: http://focus.ti.com/lit/ds/symlink/tlc7226.pdf  (value not drawn)
Part Number: TLC7226IN; Vendor: TEXAS INSTRUMENTS
footprint DIL20
pins: 1 OUTB (out), 2 OUTA (out), 3 VSS (power), 4 REF, 5 AGND (power), 6 DGND (power), 7 D7, 8 D6, 9 D5, 10 D4, 11 D3, 12 D2, 13 D1, 14 D0, 15 ~{WR}, 16 A1, 17 A0, 18 VDD (power), 19 OUTD (out), 20 OUTC (out)

## TLV320AC56
designator IC?, comment <b>VOICE BAND AUDIO PROCESSOR</b>  (value not drawn)
Vendor: TEXAS INSTRUMENTS
footprint DIL20
part A pins: 1 ~{PDN}, 2 EARA (out), 3 EARB (out), 4 EARGS, 6 ~{MICMUTE}, 7 DCLKR, 8 DIN, 9 FSR, 10 ~{EARMUTE}, 11 CLK, 12 FSX, 13 DOUT (out), 14 ~{TSX-DCLKX}, 15 ~{LINSEL}, 17 VMID (out), 18 MICIN, 19 MICGS (out), 20 MICBIAS (out)
part B pins: 5 VCC (power), 16 GND (power)

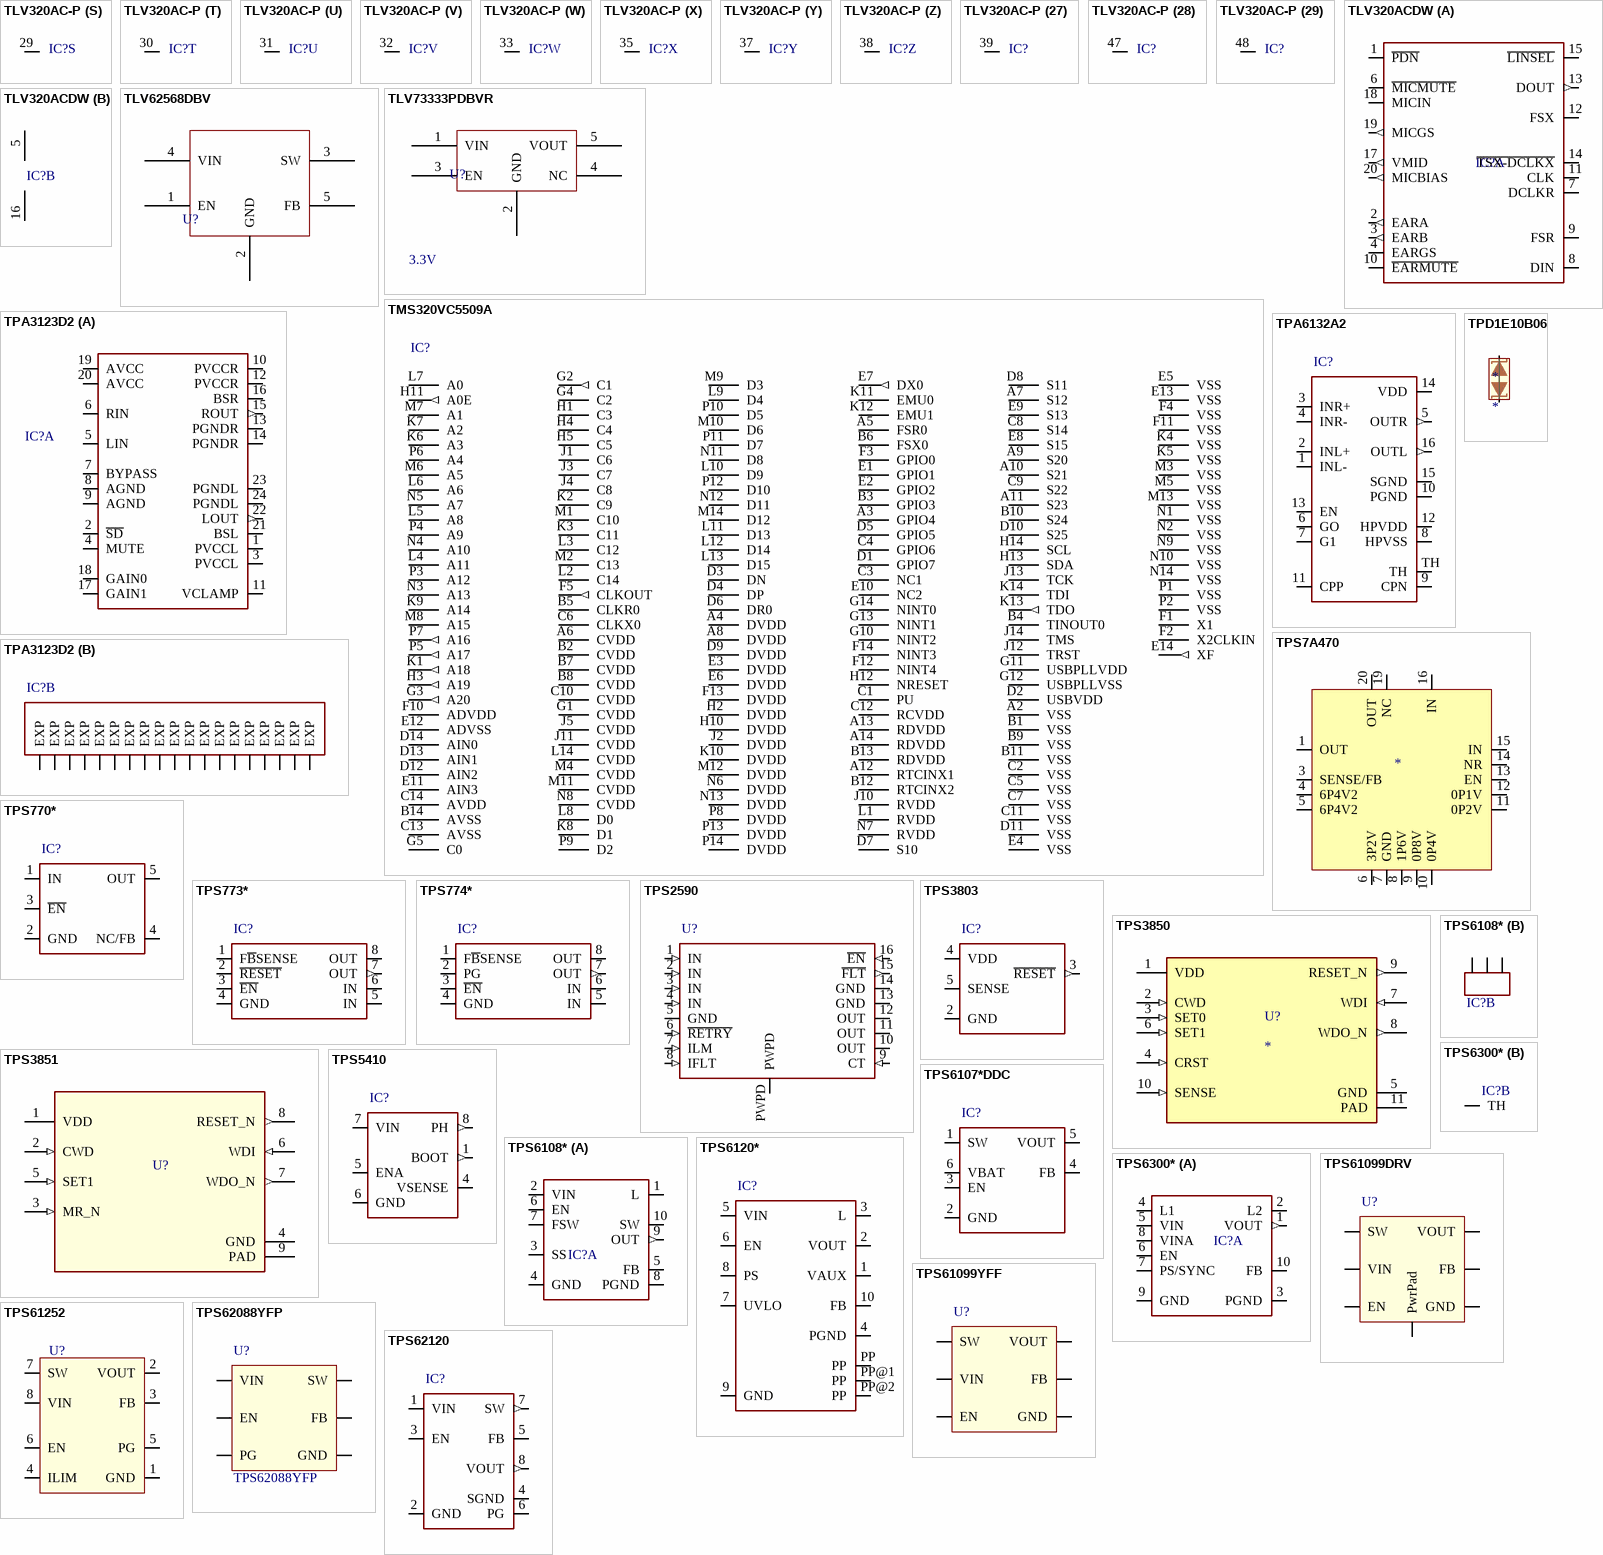
[diagram p12: symbols TLV320AC-P to TPS62120]

## TLV320AC-P
designator IC?, comment <b>DSP DEVICE</b>  (value not drawn)
Vendor: TEXAS INSTRUMENTS
footprint PQFP48
part A pins: 11 ~{MICMUTE}, 14 DCLKR, 15 DIN, 16 FSR, 17 ~{EARMUTE}, 19 CLK, 20 FSX, 21 DOUT (out), 22 ~{TSX-DCLKX}, 26 ~{LINSEL}, 36 VMID (out), 40 MICIN, 41 MICGS (out), 42 MICBIAS (out), 43 ~{PDN}, 44 EARA (out), 45 EARB (out), 46 EARGS
part B pins: 4 AVCC (power), 34 AGND (power)
part C pins: 9 DVCC (power), 27 DGND (power)
part D pins: 1 NC
part E pins: 2 NC
part F pins: 3 NC
part G pins: 5 NC
part H pins: 6 NC
part I pins: 7 NC
part J pins: 8 NC
part K pins: 10 NC
part L pins: 12 NC
part M pins: 13 NC
part N pins: 18 NC
part O pins: 23 NC
part P pins: 24 NC
part Q pins: 25 NC
part R pins: 28 NC
part S pins: 29 NC
part T pins: 30 NC
part U pins: 31 NC
part V pins: 32 NC
part W pins: 33 NC
part X pins: 35 NC
part Y pins: 37 NC
part Z pins: 38 NC
part 27 pins: 39 NC
part 28 pins: 47 NC
part 29 pins: 48 NC

## TLV320ACDW
designator IC?, comment <b>DSP DEVICE</b>  (value not drawn)
Vendor: TEXAS INSTRUMENTS
footprint SO-20DW
part A pins: 1 ~{PDN}, 2 EARA (out), 3 EARB (out), 4 EARGS, 6 ~{MICMUTE}, 7 DCLKR, 8 DIN, 9 FSR, 10 ~{EARMUTE}, 11 CLK, 12 FSX, 13 DOUT (out), 14 ~{TSX-DCLKX}, 15 ~{LINSEL}, 17 VMID (out), 18 MICIN, 19 MICGS (out), 20 MICBIAS (out)
part B pins: 5 VCC (power), 16 GND (power)

## TLV62568DBV
designator U?  (value not drawn)
Part Number: TLV62568DBV; Vendor: TEXAS INSTRUMENTS
footprint SOT23-DBV
pins: 1 EN, 2 GND, 3 SW, 4 VIN, 5 FB

## TLV73333PDBVR
designator U?  value 3.3V
Part Number: TLV73333PDBVR; Vendor: TEXAS INSTRUMENTS
footprint SOT23-DBV
pins: 1 VIN, 2 GND, 3 EN, 4 NC, 5 VOUT

## TMS320VC5509A
designator IC?, comment <b>TMS320VC5509A Fixed-Point Digital Signal Processor</b><p> / Auto generated by <i>make-symbol-device-package-bsdl.ulp Rev. 30</i><br> / Source: sprm155a.bsm<br> / http://focus.ti.com/lit/ds/symlink/tms320vc5509a.pdf  (value not drawn)
Part Number: TMS320VC5509AGHHR; Vendor: TEXAS INSTRUMENTS
footprint GHH_S-PBGA-N179
pins: A2 VSS (power), A3 GPIO4, A4 DVDD (power), A5 FSR0, A6 CVDD (power), A7 S12, A8 DVDD (power), A9 S20, A10 S21, A11 S23, A12 RTCINX1, A13 RDVDD (power), A14 RDVDD (power), B1 VSS (power), B2 CVDD (power), B3 GPIO3, B4 TINOUT0, B5 CLKR0, B6 FSX0, B7 CVDD (power), B8 CVDD (power), B9 VSS (power), B10 S24, B11 VSS (power), B12 RTCINX2, B13 RDVDD (power), B14 AVSS (power), C1 PU, C2 VSS (power), C3 NC1, C4 GPIO6, C5 VSS (power), C6 CLKX0, C7 VSS (power), C8 S14, C9 S22, C10 CVDD (power), C11 VSS (power), C12 RCVDD (power), C13 AVSS (power), C14 AVDD (power), D1 GPIO7, D2 USBVDD (power), D3 DN, D4 DP, D5 GPIO5, D6 DR0, D7 S10, D8 S11, D9 DVDD (power), D10 S25, D11 VSS (power), D12 AIN2, D13 AIN1, D14 AIN0, E1 GPIO1, E2 GPIO2, E3 DVDD (power), E4 VSS (power), E5 VSS (power), E6 DVDD (power), E7 DX0 (out), E8 S15, E9 S13, E10 NC2, E11 AIN3, E12 ADVSS (power), E13 VSS (power), E14 XF (out), F1 X1, F2 X2CLKIN, F3 GPIO0, F4 VSS (power), F5 CLKOUT (out), F10 ADVDD (power), F11 VSS (power), F12 NINT4, F13 DVDD (power), F14 NINT3, G1 CVDD (power), G2 C1 (out), G3 A20 (out), G4 C2, G5 C0, G10 NINT2, G11 USBPLLVDD (power), G12 USBPLLVSS (power), G13 NINT1, G14 NINT0, H1 C3, H2 DVDD (power), H3 A19 (out), H4 C4, H5 C5, H10 DVDD (power), H11 A0E (out), H12 NRESET, H13 SDA, H14 SCL, J1 C6, J2 DVDD (power), J3 C7, J4 C8, J5 CVDD (power), J10 RVDD (power), J11 CVDD (power), J12 TRST, J13 TCK, J14 TMS, K1 A18 (out), K2 C9, K3 C11, K4 VSS (power), K5 VSS (power), K6 A3, K7 A2, K8 D1, K9 A14, K10 DVDD (power), K11 EMU0, K12 EMU1, K13 TDO (out), K14 TDI, L1 RVDD (power), L2 C14, L3 C12, L4 A11, L5 A8, L6 A6, L7 A0, L8 D0, L9 D4, L10 D9, L11 D13, L12 D14, L13 D15, L14 CVDD (power), M1 C10, M2 C13, M3 VSS (power), M4 CVDD (power), M5 VSS (power), M6 A5, M7 A1, M8 A15, M9 D3, M10 D6, M11 CVDD (power), M12 DVDD (power), M13 VSS (power), M14 D12, N1 VSS (power), N2 VSS (power), N3 A13, N4 A10, N5 A7, N6 DVDD (power), N7 RVDD (power), N8 CVDD (power), N9 VSS (power), N10 VSS (power), N11 D8, N12 D11, N13 DVDD (power), N14 VSS (power), P1 VSS (power), P2 VSS (power), P3 A12, P4 A9, P5 A17 (out), P6 A4, P7 A16 (out), P8 DVDD (power), P9 D2, P10 D5, P11 D7, P12 D10, P13 DVDD (power), P14 DVDD (power)

## TPA3123D2
designator IC?, comment <b>25-W STEREO CLASS-D AUDIO POWER AMPLIFIER</b><p> / <font color="red">Please INVOKE gate EXP, set DRC-Clearance | Same signals | SMD - SMD = 0</font><br> / Source: http://focus.ti.com/lit/ds/symlink/tpa3123d2.pdf  (value not drawn)
Part Number: TPA3123D2PWP; Vendor: TEXAS INSTRUMENTS
footprint PWP-TSSOP24
part A pins: 1 PVCCL, 2 ~{SD}, 3 PVCCL, 4 MUTE, 5 LIN, 6 RIN, 7 BYPASS, 8 AGND, 9 AGND, 10 PVCCR, 11 VCLAMP, 12 PVCCR, 13 PGNDR, 14 PGNDR, 15 ROUT (out), 16 BSR, 17 GAIN1, 18 GAIN0, 19 AVCC, 20 AVCC, 21 BSL, 22 LOUT (out), 23 PGNDL, 24 PGNDL
part B pins: EXP, EXP@1 EXP, EXP@2 EXP, EXP@3 EXP, EXP@4 EXP, EXP@5 EXP, EXP@6 EXP, EXP@7 EXP, EXP@8 EXP, EXP@9 EXP, EXP@10 EXP, EXP@11 EXP, EXP@12 EXP, EXP@13 EXP, EXP@14 EXP, EXP@15 EXP, EXP@16 EXP, EXP@17 EXP, EXP@18 EXP

## TPA6132A2
designator IC?, comment <b>25-mW DIRECTPATH (TM) STEREO HEADPHONE AMPLIFIER WITH POP SUPPRESSION</b><p> / Source: www.ti.com .. tpa6132a2 direct path stereo $.65.pdf  (value not drawn)
Part Number: TPA6132A2RTET; Vendor: TEXAS INSTRUMENTS
footprint QFN16
pins: 1 INL-, 2 INL+, 3 INR+, 4 INR-, 5 OUTR (out), 6 GO, 7 G1, 8 HPVSS, 9 CPN, 10 PGND (power), 11 CPP, 12 HPVDD, 13 EN, 14 VDD (power), 15 SGND (power), 16 OUTL (out), TH

## TPD1E10B06
designator *
Part Number: TPD1E10B06; Vendor: TEXAS INSTRUMENTS; Value: *
footprint DPY-PX1SON
footprint 0402
pins: 1, 2

## TPS7A470
designator *  (value not drawn)
36-V, 1-A, 4-μVRMS, RF LDO Voltage Regulator; Vendor: TEXAS INSTRUMENTS
footprint QFN20-5X5
pins: 1 OUT (power), 2 NC hidden, 3 SENSE/FB, 4 6P4V2, 5 6P4V2, 6 3P2V (power), 7 GND, 8 1P6V, 9 0P8V, 10 0P4V, 11 0P2V (power), 12 0P1V, 13 EN, 14 NR, 15 IN, 16 IN (power), 17 NC hidden, 18 NC hidden, 19 NC, 20 OUT

## TPS770*
designator IC?, comment <b>ULTRALOW-POWER 50-mA LOW-DROPOUT LINEAR REGULATORS</b><p> / 50-mA Low-Dropout Regulator<br> / Source: http://focus.ti.com/lit/ds/symlink/tps77001.pdf  (value not drawn)
Part Number: TPS77050DBVT; Vendor: TEXAS INSTRUMENTS
footprint SOT23-DBV
pins: 1 IN, 2 GND (power), 3 ~{EN}, 4 NC/FB, 5 OUT

## TPS773*
designator IC?, comment <B>250-mA LDO REGULATORS WITH RESET OUTPUT</b> WITH 8-PIN MSOP PACKAGING<p> / Source: http://focus.ti.com/lit/ds/symlink/tps77333.pdf  (value not drawn)
Part Number: TPS77350DGK; Vendor: TEXAS INSTRUMENTS
footprint SOP-08
pins: 1 F~{B}SENSE, 2 ~{RESET}, 3 ~{EN}, 4 GND (power), 5 IN, 6 IN, 7 OUT (out), 8 OUT

## TPS774*
designator IC?, comment <B>250-mA LDO REGULATORS WITH POWER GOOD OUTPUT</b> WITH 8-PIN MSOP PACKAGING<p> / Source: http://focus.ti.com/lit/ds/symlink/tps77333.pdf  (value not drawn)
Vendor: TEXAS INSTRUMENTS
footprint DGK-R-PDSO-G8
pins: 1 F~{B}SENSE, 2 PG, 3 ~{EN}, 4 GND (power), 5 IN, 6 IN, 7 OUT (out), 8 OUT

## TPS2590
designator U?  (value not drawn)
Vendor: TEXAS INSTRUMENTS; Part Number: TPS2590
footprint QFN16-4X4
pins: 1 IN (in), 2 IN (in), 3 IN (in), 4 IN (in), 5 GND (power), 6 ~{RETRY} (in), 7 ILM (in), 8 IFLT (in), 9 CT (in), 10 OUT (power), 11 OUT (power), 12 OUT (power), 13 GND (power), 14 GND (power), 15 ~{FLT} (out), 16 ~{EN} (in), PWPD

## TPS3803
designator IC?, comment <b>Single Voltage Detector</b><p> / Source: http://focus.ti.com/lit/ds/symlink/tps3803-01.pdf  (value not drawn)
Part Number: TPS3803-01DCKR; Vendor: TEXAS INSTRUMENTS
footprint DCK
pins: 2 GND (power), 3 ~{RESET} (out), 4 VDD (power), 5 SENSE

## TPS3850
designator U?
Part Number: TPS3850; Vendor: TEXAS INSTRUMENTS
footprint VSON_10
pins: 1 VDD (power), 2 CWD (in), 3 SET0 (in), 4 CRST (in), 5 GND (power), 6 SET1 (in), 7 WDI (in), 8 WDO_N (out), 9 RESET_N (out), 10 SENSE (in), 11 PAD (power)

## TPS3851
designator U?  (value not drawn)
Vendor: TEXAS INSTRUMENTS
footprint DRB0008A
pins: 1 VDD (power), 2 CWD (in), 3 MR_N (in), 4 GND (power), 5 SET1 (in), 6 WDI (in), 7 WDO_N (out), 8 RESET_N (out), 9 PAD (power)

## TPS5410
designator IC?, comment <b>1-A, WIDE INPUT RANGE, STEP-DOWN SWIFT? CONVERTER</b><p> / Source: U7 Texas TPS5410 Step Down Converter.pdf  (value not drawn)
Part Number: TPS5410DR; Vendor: TEXAS INSTRUMENTS
footprint D_R-PDSO-G08
pins: 1 BOOT (out), 4 VSENSE, 5 ENA, 6 GND (power), 7 VIN, 8 PH (out)

## TPS6107*DDC
designator IC?, comment <b>90% EFFICIENT SYNCHRONOUS BOOST CONVERTER WITH 600-mA SWITCH</b><p> / Source: http://focus.ti.com/lit/ds/symlink/tps61070.pdf  (value not drawn)
Part Number: TPS61073DDCRG4; Vendor: TEXAS INSTRUMENTS
footprint TSOT23-6_DDC
pins: 1 SW, 2 GND (power), 3 EN, 4 FB, 5 VOUT, 6 VBAT

## TPS6108*
designator IC?, comment <b>HIGH VOLTAGE DC/DC BOOST CONVERTER WITH 0.5-A/1.3-A INTEGRATED SWITCH</b><p> / Source: www.ti.com .. tps61081[1].pdf  (value not drawn)
Part Number: TPS61081DRCT; Vendor: TEXAS INSTRUMENTS
footprint S-PDSO-N10
part A pins: 1 L, 2 VIN, 3 SS, 4 GND (power), 5 FB, 6 EN, 7 FSW, 8 PGND, 9 OUT (out), 10 SW
part B pins: PP EXP, PP@1 EXP, PP@2 EXP

## TPS6120*
designator IC?, comment <b>LOW INPUT VOLTAGE SYNCHRONOUS BOOST CONVERTER WITH 1.3-A SWITCHES</b><p> / Source: http://focus.ti.com/lit/ds/symlink/tps61200.pdf  (value not drawn)
Part Number: TPS61202DRCR; Vendor: TEXAS INSTRUMENTS
footprint S-PDSO-N10
pins: 1 VAUX, 2 VOUT, 3 L, 4 PGND (power), 5 VIN, 6 EN, 7 UVLO, 8 PS, 9 GND (power), 10 FB, PP (power), PP@1 PP (power), PP@2 PP (power)

## TPS6300*
designator IC?, comment <b>HIGH EFFICIENT SINGLE INDUCTOR BUCK-BOOST CONVERTER WITH 1.8-A SWITCHES</b><p> / Source: http://focus.ti.com/lit/ds/symlink/tps63001.pdf  (value not drawn)
Part Number: TPS63000DRCTG4; Vendor: TEXAS INSTRUMENTS
footprint DRC-S-PVSON-N10
part A pins: 1 VOUT (out), 2 L2, 3 PGND (power), 4 L1, 5 VIN, 6 EN, 7 PS/SYNC, 8 VINA, 9 GND (power), 10 FB
part B pins: TH

## TPS61099DRV
designator U?  (value not drawn)
Synchronous Boost Converter with Ultra-Low Quiescent Current; Vendor: TEXAS INSTRUMENTS; Part Number: TPS61099DRV
footprint UDFN6 2x2 (UDFN6 2x2, 0.65P  CASE 517BF)
pins: 1 GND (power), 2 VOUT, 3 FB, 4 EN, 5 SW, 6 VIN, 7 PwrPad (power)

## TPS61099YFF
designator U?  (value not drawn)
Synchronous Boost Converter with Ultra-Low Quiescent Current; Part Number: TPS61099YFFR; Vendor: TEXAS INSTRUMENTS
footprint DSBGA3X2
pins: A1 VIN, A2 GND (power), B1 SW, B2 VOUT, C1 EN, C2 FB

## TPS61252
designator U?  (value not drawn)
Switching Voltage Regulators 3.5MHz1.5A92% Eff Boost Converter; Part Number: TPS61252DSGR; Vendor: TEXAS INSTRUMENTS
footprint WSON8 2X2
pins: 1 GND (power), 2 VOUT, 3 FB, 4 ILIM (power), 5 PG (power), 6 EN, 7 SW, 8 VIN

## TPS62088YFP
designator U?
Tiny 6-pin 3-A Step-Down Converter in 1.2-mm x 0.8-mm WCSP; Part Number: TPS62088YFPR; Vendor: TEXAS INSTRUMENTS
footprint DSBGA3X2
pins: A1 EN, A2 VIN, B1 PG, B2 SW, C1 FB, C2 GND (power)

## TPS62120
designator IC?, comment <b>15V, 75mA High Efficient Buck Converter</b><p> / Source: tps62120.pdf (www.ti.com)  (value not drawn)
Vendor: TEXAS INSTRUMENTS
footprint DCN-R-PDSO-G8
pins: 1 VIN, 2 GND (power), 3 EN, 4 SGND, 5 FB, 6 PG, 7 SW (out), 8 VOUT (out)

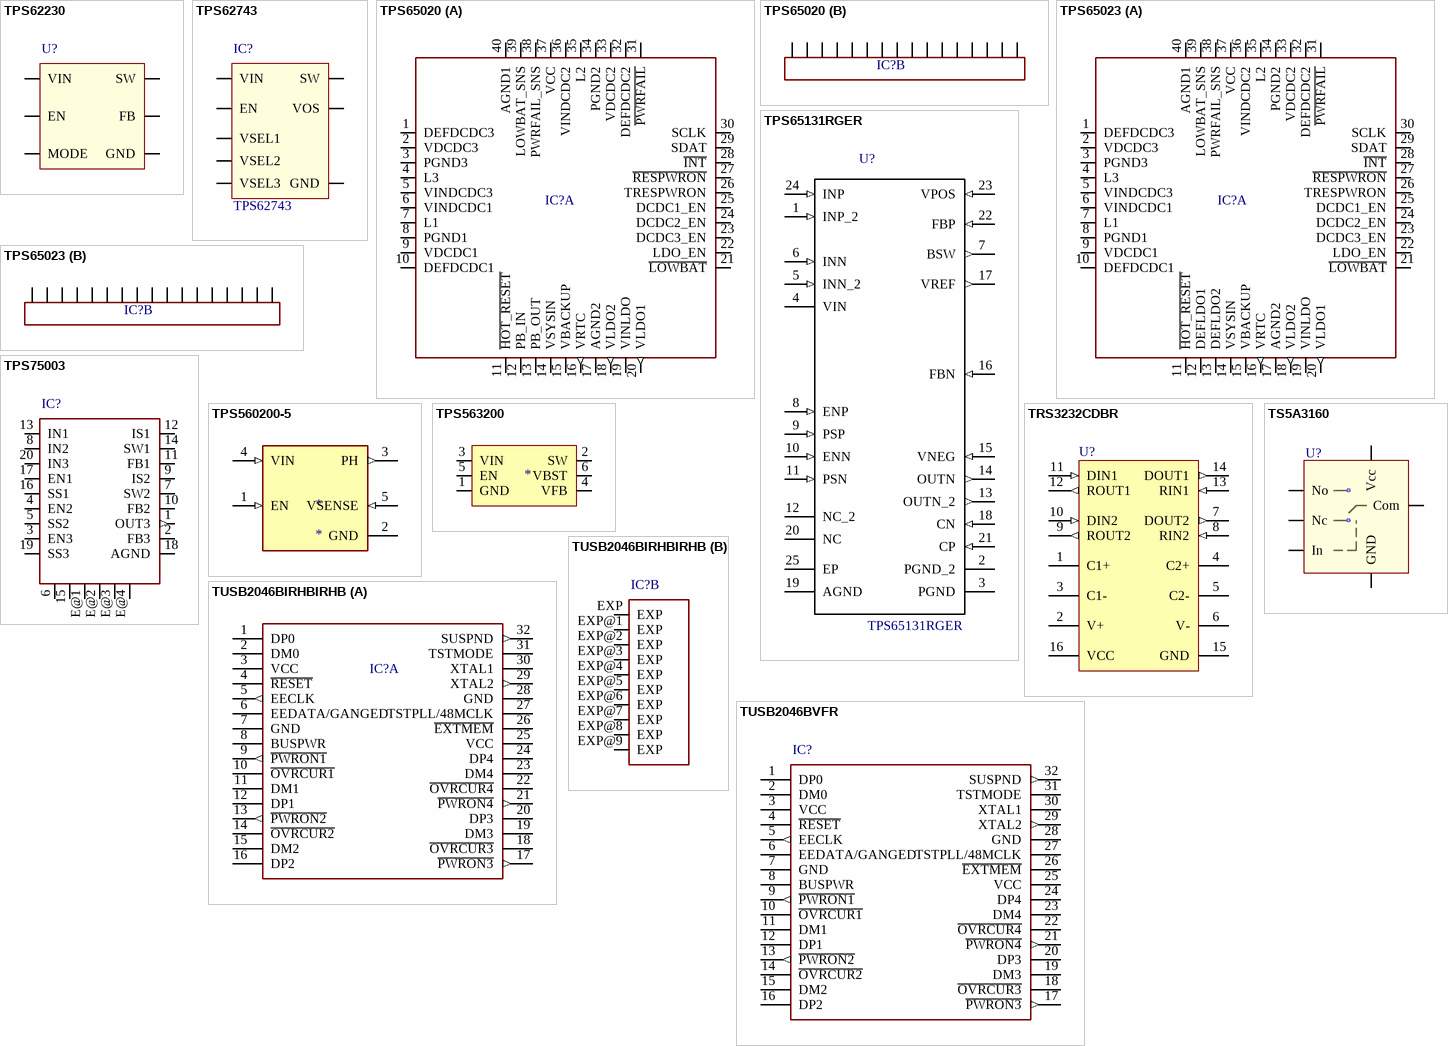
[diagram p13: symbols TPS62230 to TUSB2046BVFR]

## TPS62230
designator U?  (value not drawn)
Switching Voltage Regulators 3 MHz Ultra Small Step Down Converter; Part Number: TPS61099YFFR; Vendor: TEXAS INSTRUMENTS
footprint USON6 (USON6 1x1.45)
pins: 1 MODE, 2 SW, 3 VIN (power), 4 GND (power), 5 EN, 6 FB

## TPS62743
designator IC?
300mA High Efficiency Buck Converter with Ultra-low  Quiescent Current; Part Number: TPS62743YFPT; Vendor: TEXAS INSTRUMENTS
footprint DSBGA4X2
pins: A1 SW, A2 VIN, B1 EN, B2 GND (power), C1 VSEL1, C2 VOS, D1 VSEL2, D2 VSEL3

## TPS65020
designator IC?, comment <b>POWER MANAGEMENT IC FOR LI-ION POWERED SYSTEMS</b><p> / Source: http://focus.ti.com/lit/ds/symlink/tps65020.pdf  (value not drawn)
Part Number: TPS65020RHAT; Vendor: TEXAS INSTRUMENTS
footprint QFN40-6X6
part A pins: 1 DEFDCDC3, 2 VDCDC3, 3 PGND3, 4 L3, 5 VINDCDC3, 6 VINDCDC1, 7 L1, 8 PGND1, 9 VDCDC1, 10 DEFDCDC1, 11 ~{HOT_RESET}, 12 PB_IN, 13 PB_OUT, 14 VSYSIN, 15 VBACKUP, 16 VRTC (out), 17 AGND2, 18 VLDO2 (out), 19 VINLDO, 20 VLDO1 (out), 21 ~{LOWBAT} (oc), 22 LDO_EN, 23 DCDC3_EN, 24 DCDC2_EN, 25 DCDC1_EN, 26 TRESPWRON, 27 ~{RESPWRON} (oc), 28 ~{INT} (oc), 29 SDAT, 30 SCLK, 31 ~{PWRFAIL} (oc), 32 DEFDCDC2, 33 VDCDC2, 34 PGND2, 35 L2, 36 VINDCDC2, 37 VCC, 38 PWRFAIL_SNS, 39 LOWBAT_SNS, 40 AGND1
part B pins: EXP@1 EXP16, EXP@2 EXP16, EXP@3 EXP16, EXP@4 EXP16, EXP@5 EXP16, EXP@6 EXP16, EXP@7 EXP16, EXP@8 EXP16, EXP@9 EXP16, EXP@10 EXP16, EXP@11 EXP16, EXP@12 EXP16, EXP@13 EXP16, EXP@14 EXP16, EXP@15 EXP16, EXP@16 EXP16

## TPS65023
designator IC?, comment <b>POWER MANAGEMENT IC FOR LI-ION POWERED SYSTEMS</b><p> / Source: http://focus.ti.com/lit/ds/symlink/tps65023.pdf  (value not drawn)
Part Number: TPS65023RSBR; Vendor: TEXAS INSTRUMENTS
footprint QFN40-5X5
part A pins: 1 DEFDCDC3, 2 VDCDC3, 3 PGND3, 4 L3, 5 VINDCDC3, 6 VINDCDC1, 7 L1, 8 PGND1, 9 VDCDC1, 10 DEFDCDC1, 11 ~{HOT_RESET}, 12 DEFLDO1, 13 DEFLDO2, 14 VSYSIN, 15 VBACKUP, 16 VRTC (out), 17 AGND2, 18 VLDO2 (out), 19 VINLDO, 20 VLDO1 (out), 21 ~{LOWBAT} (oc), 22 LDO_EN, 23 DCDC3_EN, 24 DCDC2_EN, 25 DCDC1_EN, 26 TRESPWRON, 27 ~{RESPWRON} (oc), 28 ~{INT} (oc), 29 SDAT, 30 SCLK, 31 ~{PWRFAIL} (oc), 32 DEFDCDC2, 33 VDCDC2, 34 PGND2, 35 L2, 36 VINDCDC2, 37 VCC, 38 PWRFAIL_SNS, 39 LOWBAT_SNS, 40 AGND1
part B pins: EXP, EXP@1 EXP16, EXP@2 EXP16, EXP@3 EXP16, EXP@4 EXP16, EXP@5 EXP16, EXP@6 EXP16, EXP@7 EXP16, EXP@8 EXP16, EXP@9 EXP16, EXP@10 EXP16, EXP@11 EXP16, EXP@12 EXP16, EXP@13 EXP16, EXP@14 EXP16, EXP@15 EXP16, EXP@16 EXP16

## TPS65131RGER
designator U?
Split-Rail Converter with Dual, Positive and Negative Outputs (750mA typ); MF: Texas Instruments; MP: TPS65131RGET; SnapEDA_Link: https://www.snapeda.com/parts/TPS65131RGET/Texas%20Instruments/view-part/?ref=snap; Price: None; Availability: Unavailable; Package: VQFN-24 Texas Instruments; Value: *
footprint VQFN24
pins: 1 INP_2 (in), 2 PGND_2, 3 PGND, 4 VIN (power), 5 INN_2 (in), 6 INN (in), 7 BSW (out), 8 ENP (in), 9 PSP (in), 10 ENN (in), 11 PSN (in), 12 NC_2, 13 OUTN_2 (out), 14 OUTN (out), 15 VNEG (in), 16 FBN (in), 17 VREF (out), 18 CN (in), 19 AGND, 20 NC, 21 CP (in), 22 FBP (in), 23 VPOS (in), 24 INP (in), 25 EP

## TPS75003
designator IC?, comment <b>Triple-Supply Power Management IC</b> for Powering FPGAs and DSPs<p> / Source: http://focus.ti.com/lit/ds/symlink/tps75003.pdf  (value not drawn)
Part Number: TPS75003RHLT; Vendor: TEXAS INSTRUMENTS
footprint R-PQFP-N20
pins: 1 OUT3 (out), 2 FB3, 3 EN3, 4 EN2, 5 SS2, 6 DGND (power), 7 SW2, 8 IN2, 9 IS2, 10 FB2, 11 FB1, 12 IS1, 13 IN1, 14 SW1, 15 DGND (power), 16 SS1, 17 EN1, 18 AGND (power), 19 SS3, 20 IN3, E@1 DGND (power), E@2 DGND (power), E@3 DGND (power), E@4 DGND (power)

## TPS560200-5
designator *
Vendor: TEXAS INSTRUMENTS; Value: *; Part Number: *
footprint SOT-23-5 - Meter
pins: 1 EN (in), 2 GND (power), 3 PH (out), 4 VIN (in), 5 VSENSE (in)

## TPS563200
designator *  (value not drawn)
Vendor: TEXAS INSTRUMENTS
footprint DBV0006A_N
pins: 1 GND (power), 2 SW, 3 VIN, 4 VFB, 5 EN, 6 VBST

## TRS3232CDBR
designator U?
3-V to 5.5-V Multichannel RS-232 Line Driver / Receiver with ±15-kV ESD Protection, 0 to 70 degC, 16-Pin SSOP (DB),  Green (RoHS & no Sb/Br); Part Number: TRS3232CDBR; Vendor: TEXAS INSTRUMENTS
footprint DB0016A_N
pins: 1 C1+, 2 V+ (power), 3 C1-, 4 C2+, 5 C2-, 6 V- (power), 7 DOUT2 (out), 8 RIN2 (in), 9 ROUT2 (out), 10 DIN2 (in), 11 DIN1 (in), 12 ROUT1 (out), 13 RIN1 (in), 14 DOUT1 (out), 15 GND (power), 16 VCC (power)

## TS5A3160
designator U?  (value not drawn)
Part Number: TS5A3160DCKR; Vendor: TEXAS INSTRUMENTS
footprint SC-70-6
pins: 1 No, 2 GND (power), 3 Nc, 4 Com, 5 Vcc, 6 In

## TUSB2046BIRHBIRHB
designator IC?, comment <b>4-PORT HUB FOR THE UNIVERSAL SERIAL BUS WITH OPTIONAL SERIAL EEPROM INTERFACE</b><p> / Source: http://focus.ti.com/lit/ds/symlink/tusb2046b.pdf  (value not drawn)
Part Number: TUSB2046BIRHBT; Vendor: TEXAS INSTRUMENTS
footprint RHB_S-PQFP-N32
part A pins: 1 DP0, 2 DM0, 3 VCC (power), 4 ~{RESET}, 5 EECLK (out), 6 EEDATA/GANGED, 7 GND (power), 8 BUSPWR, 9 ~{PWRON1} (out), 10 ~{OVRCUR1}, 11 DM1, 12 DP1, 13 ~{PWRON2} (out), 14 ~{OVRCUR2}, 15 DM2, 16 DP2, 17 ~{PWRON3} (out), 18 ~{OVRCUR3}, 19 DM3, 20 DP3, 21 ~{PWRON4} (out), 22 ~{OVRCUR4}, 23 DM4, 24 DP4, 25 VCC (power), 26 ~{EXTMEM}, 27 TSTPLL/48MCLK, 28 GND (power), 29 XTAL2 (out), 30 XTAL1, 31 TSTMODE, 32 SUSPND (out)
part B pins: EXP, EXP@1 EXP, EXP@2 EXP, EXP@3 EXP, EXP@4 EXP, EXP@5 EXP, EXP@6 EXP, EXP@7 EXP, EXP@8 EXP, EXP@9 EXP

## TUSB2046BVFR
designator IC?, comment <b>4-PORT HUB FOR THE UNIVERSAL SERIAL BUS WITH OPTIONAL SERIAL EEPROM INTERFACE</b><p> / Auto generated by <i>make-symbol-device-package-bsdl.ulp Rev. 30</i><br> / Source: http://focus.ti.com/lit/ds/symlink/tusb2046b.pdf  (value not drawn)
Part Number: TUSB2046BVFR; Vendor: TEXAS INSTRUMENTS
footprint VF_S-PQFP-G32
pins: 1 DP0, 2 DM0, 3 VCC (power), 4 ~{RESET}, 5 EECLK (out), 6 EEDATA/GANGED, 7 GND (power), 8 BUSPWR, 9 ~{PWRON1} (out), 10 ~{OVRCUR1}, 11 DM1, 12 DP1, 13 ~{PWRON2} (out), 14 ~{OVRCUR2}, 15 DM2, 16 DP2, 17 ~{PWRON3} (out), 18 ~{OVRCUR3}, 19 DM3, 20 DP3, 21 ~{PWRON4} (out), 22 ~{OVRCUR4}, 23 DM4, 24 DP4, 25 VCC (power), 26 ~{EXTMEM}, 27 TSTPLL/48MCLK, 28 GND (power), 29 XTAL2 (out), 30 XTAL1, 31 TSTMODE, 32 SUSPND (out)